# EAGLE library part STM32F405RGT6 (library STM32F405RGT6)
MCU 32-Bit, ARM Cortex M4, 1MB Flash STMicroelectronics STM32F405RGT6, 32bit ARM Cortex M4F Microcontroller, 168MHz, 1024 kB Flash, 64-Pin LQFP <https://componentsearchengine.com/Images/3/STM32F405RGT6.jpg> Source: Datasheet <http://www.st.com/web/en/resource/technical/document/datasheet/DM00037051.pdf>
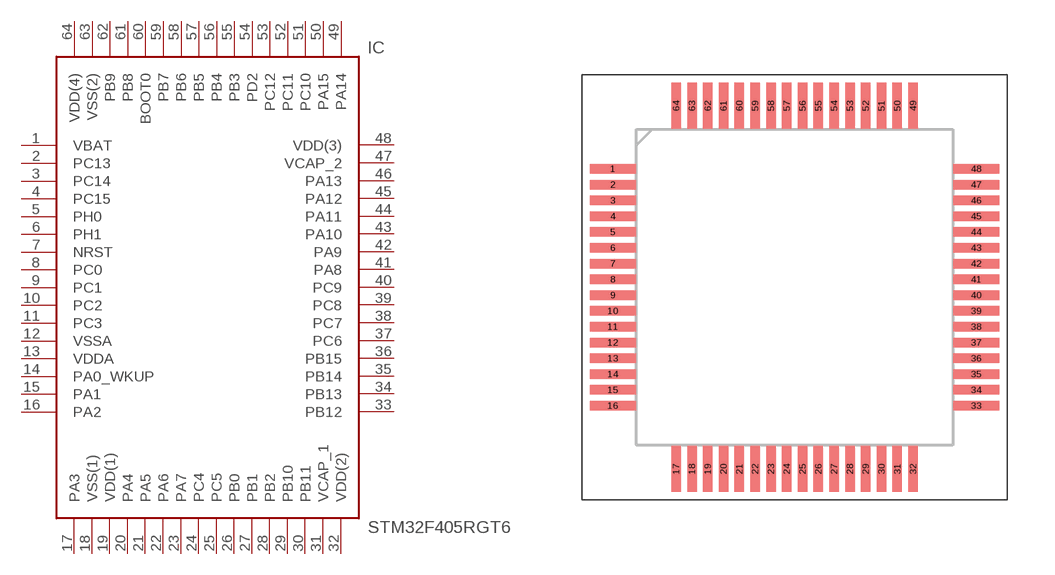
[diagram p0: symbol with the pads of QFP50P1200X1200X160-64N; footprint QFP50P1200X1200X160-64N]

Designator prefix IC

## STM32F405RGT6 (Allied_Number: 70391099; Description: MCU 32-Bit, ARM Cortex M4, 1MB Flash STMicroelectronics STM32F405RGT6, 32bit ARM Cortex M4F Microcontroller, 168MHz, 1024 kB Flash, 64-Pin LQFP; Height: 1.6mm; Manufacturer_Name: STMicroelectronics; Manufacturer_Part_Number: STM32F405RGT6; RS_Part_Number: 7468217; Supplier_Name: RS)  [QFP50P1200X1200X160-64N]
1  VBAT  pas
2  PC13  pas
3  PC14  pas
4  PC15  pas
5  PH0  pas
6  PH1  pas
7  NRST  in
8  PC0  pas
9  PC1  pas
10  PC2  pas
11  PC3  pas
12  VSSA  pwr
13  VDDA  pwr
14  PA0_WKUP  pas
15  PA1  pas
16  PA2  pas
17  PA3  pas
18  VSS(1)  pwr
19  VDD(1)  pwr
20  PA4  pas
21  PA5  pas
22  PA6  pas
23  PA7  pas
24  PC4  pas
25  PC5  pas
26  PB0  pas
27  PB1  pas
28  PB2  pas
29  PB10  pas
30  PB11  pas
31  VCAP_1  pas
32  VDD(2)  pwr
33  PB12  pas
34  PB13  pas
35  PB14  pas
36  PB15  pas
37  PC6  pas
38  PC7  pas
39  PC8  pas
40  PC9  pas
41  PA8  pas
42  PA9  pas
43  PA10  pas
44  PA11  pas
45  PA12  pas
46  PA13  pas
47  VCAP_2  pas
48  VDD(3)  pwr
49  PA14  pas
50  PA15  pas
51  PC10  pas
52  PC11  pas
53  PC12  pas
54  PD2  pas
55  PB3  pas
56  PB4  pas
57  PB5  pas
58  PB6  pas
59  PB7  pas
60  BOOT0  pas
61  PB8  pas
62  PB9  pas
63  VSS(2)  pwr
64  VDD(4)  pwr

## Footprint QFP50P1200X1200X160-64N (pad centres in mm)
LQFP64
smd 1.45 x 0.3: 1 -5.75,3.75; 2 -5.75,3.25; 3 -5.75,2.75; 4 -5.75,2.25; 5 -5.75,1.75; 6 -5.75,1.25; 7 -5.75,0.75; 8 -5.75,0.25; 9 -5.75,-0.25; 10 -5.75,-0.75; 11 -5.75,-1.25; 12 -5.75,-1.75; 13 -5.75,-2.25; 14 -5.75,-2.75; 15 -5.75,-3.25; 16 -5.75,-3.75; 33 5.75,-3.75; 34 5.75,-3.25; 35 5.75,-2.75; 36 5.75,-2.25; 37 5.75,-1.75; 38 5.75,-1.25; 39 5.75,-0.75; 40 5.75,-0.25; 41 5.75,0.25; 42 5.75,0.75; 43 5.75,1.25; 44 5.75,1.75; 45 5.75,2.25; 46 5.75,2.75; 47 5.75,3.25; 48 5.75,3.75
smd 0.3 x 1.45: 17 -3.75,-5.75; 18 -3.25,-5.75; 19 -2.75,-5.75; 20 -2.25,-5.75; 21 -1.75,-5.75; 22 -1.25,-5.75; 23 -0.75,-5.75; 24 -0.25,-5.75; 25 0.25,-5.75; 26 0.75,-5.75; 27 1.25,-5.75; 28 1.75,-5.75; 29 2.25,-5.75; 30 2.75,-5.75; 31 3.25,-5.75; 32 3.75,-5.75; 49 3.75,5.75; 50 3.25,5.75; 51 2.75,5.75; 52 2.25,5.75; 53 1.75,5.75; 54 1.25,5.75; 55 0.75,5.75; 56 0.25,5.75; 57 -0.25,5.75; 58 -0.75,5.75; 59 -1.25,5.75; 60 -1.75,5.75; 61 -2.25,5.75; 62 -2.75,5.75; 63 -3.25,5.75; 64 -3.75,5.75